# Altium schematic symbol library Inductor.SchLib: 22 symbols
Pins are listed as number, name and electrical type; pins without a type are passive.

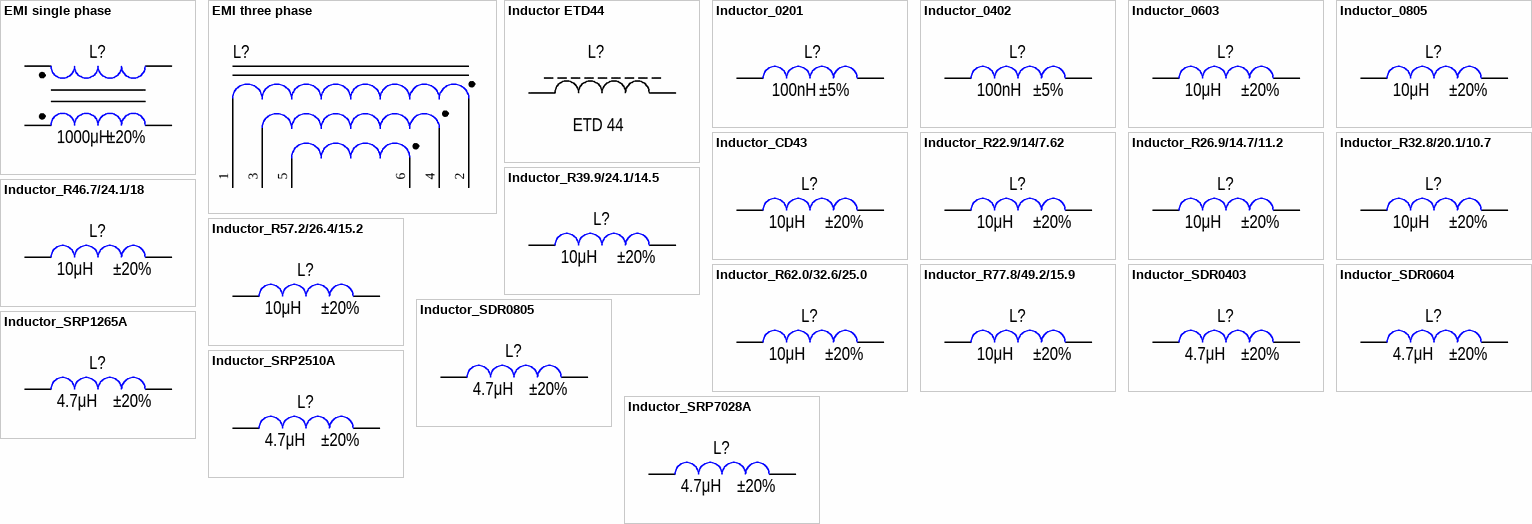
[diagram p0: symbols EMI single phase to Inductor_SRP7028A]

## EMI single phase
designator L?  value 1000μH  Tolerance: ±20%
Manufacturer: Epcos; PartNumber: B64290L0022X037; ValueManufacturerPartNumber: Fixed inductor, 1000μH, ±20%, R41.8/26.2/12.5, T37, 700 нГн/витков2; TypeInductor: Fixed inductor; TypeMatiriel: T37; AL: 700 нГн/витков2; Package: R41.8/26.2/12.5; HelpURL: http://ferrite.ru/warehouse/r-41.8-x-26.2-x-12.5-serdechnik-b64290l0022x037.html
footprint IND: R41.8/26.2/12.5 (EMI-H)
footprint IND: R41.8/26.2/12.5 (EMI-L)
pins: 1, 2, 3, 4

## EMI three phase
designator L?
Manufacturer: Epcos; PartNumber: B64290L0022X037; ValueManufacturerPartNumber: Fixed inductor, 1000μH, ±20%, R41.8/26.2/12.5, T37, 700 нГн/витков2; TypeInductor: Fixed inductor; TypeMatiriel: T37; AL: 700 нГн/витков2; Tolerance: ±20%; Value: 1000μH; Package: R41.8/26.2/12.5; HelpURL: http://ferrite.ru/warehouse/r-41.8-x-26.2-x-12.5-serdechnik-b64290l0022x037.html
footprint IND: RT8532-8-4M8 (3PH)
footprint IND: RT8532-20-2M5
pins: 1, 2, 3, 4, 5, 6

## Inductor ETD44
designator L?  Package: ETD 44  (hidden comment: *)
HelpURL: *; PartNumber: *
footprint IND ETD44 (9x9 pins)
pins: 1, 2

## Inductor_0201
designator L?  value 100nH  Tolerance: ±5%
Manufacturer: Murata Electronics; PartNumber: LQP03TNR10J02D; ValueManufacturerPartNumber: Fixed inductor, 100nH, ±5%, 0201, 80mA, -55...+125°C; TypeInductor: Fixed inductor; MaxCurrent: 80mA; Package: 0201; HelpURL: https://www.digikey.com/product-detail/en/murata-electronics-north-america/LQP03TNR10J02D/490-6742-1-ND/3845939; Temperature: -55...+125°C
footprint IND: 0201
pins: 1, 2

## Inductor_0402
designator L?  value 100nH  Tolerance: ±5%
Manufacturer: Murata Electronics; PartNumber: LQG15HSR10J02D; ValueManufacturerPartNumber: Fixed inductor, 100nH, ±5%, 0402, 200mA, -55...+125°C; TypeInductor: Fixed inductor; MaxCurrent: 200mA; Package: 0402; HelpURL: https://www.digikey.com/product-detail/en/murata-electronics-north-america/LQG15HSR10J02D/490-2635-1-ND/662915; Temperature: -55...+125°C
footprint IND: 0402
pins: 1, 2

## Inductor_0603
designator L?  value 10μH  Tolerance: ±20%
Manufacturer: Murata Electronics; PartNumber: LQM18FN100M00D; ValueManufacturerPartNumber: Fixed inductor, 10μH, ±20%, 0603, 50mA, -55...+125°C; TypeInductor: Fixed inductor; MaxCurrent: 50mA; Package: 0603; HelpURL: https://www.digikey.com/product-detail/en/murata-electronics-north-america/LQM18FN100M00D/490-4025-1-ND/1016285; Temperature: -55...+125°C
footprint IND: 0603
pins: 1, 2

## Inductor_0805
designator L?  value 10μH  Tolerance: ±20%
Manufacturer: Murata Electronics; PartNumber: LQM21FN100M70L; ValueManufacturerPartNumber: Fixed inductor, 10μH, ±20%, 0805, 100mA, -55...+125°C; TypeInductor: Fixed inductor; MaxCurrent: 100mA; Package: 0805; HelpURL: https://www.digikey.com/product-detail/en/murata-electronics-north-america/LQM21FN100M70L/490-4029-1-ND/1016289; Temperature: -55...+125°C
footprint IND: 0805
pins: 1, 2

## Inductor_CD43
designator L?  value 10μH  Tolerance: ±20%
Manufacturer: Sumida; PartNumber: CD43NP-100MC; ValueManufacturerPartNumber: Fixed inductor, 10μH, ±20%, CD43, 1.04A, -40...+100°C; TypeInductor: Fixed inductor; MaxCurrent: 1.04A; Package: CD43; HelpURL: https://www.digikey.com/product-detail/en/sumida-america-components-inc/CD43NP-100MC/308-1855-1-ND/3925624; Temperature: -40...+100°C
footprint IND: CD43
pins: 1, 2

## Inductor_R22.9/14/7.62
designator L?  value 10μH  Tolerance: ±20%
Manufacturer: Magnetics; PartNumber: 0077310A7; ValueManufacturerPartNumber: Fixed inductor, 10μH, ±20%, R22.9/14/7.62, Kool Mu, µ=125, 90 нГн/витков2; TypeInductor: Fixed inductor; TypeMatiriel: Kool Mu; AL: 90 нГн/витков2; MaterialPermeability: µ=125; Package: R22.9/14/7.62; HelpURL: http://ferrite.ru/warehouse/r-22-9147-62-77310-a7.html
footprint IND: R22.9/14/7.62 (H)
footprint IND: R22.9/14/7.62 (L)
pins: 1, 2

## Inductor_R26.9/14.7/11.2
designator L?  value 10μH  Tolerance: ±20%
Manufacturer: Magnetics; PartNumber: 0077930A7; ValueManufacturerPartNumber: Fixed inductor, 10μH, ±20%, R26.9/14.7/11.2, Kool Mu, µ=125, 157 нГн/витков2; TypeInductor: Fixed inductor; TypeMatiriel: Kool Mu; AL: 157 нГн/витков2; MaterialPermeability: µ=125; Package: R26.9/14.7/11.2; HelpURL: http://ferrite.ru/warehouse/r-26-914-711-2-77930-a7.html
footprint IND: R26.9/14.7/11.2 (H)
footprint IND: R26.9/14.7/11.2 (L)
pins: 1, 2

## Inductor_R32.8/20.1/10.7
designator L?  value 10μH  Tolerance: ±20%
Manufacturer: Magnetics; PartNumber: 0077548A7; ValueManufacturerPartNumber: Fixed inductor, 10μH, ±20%, R32.8/20.1/10.7, Kool Mu, µ=125, 127 нГн/витков2; TypeInductor: Fixed inductor; TypeMatiriel: Kool Mu; AL: 127 нГн/витков2; MaterialPermeability: µ=125; Package: R32.8/20.1/10.7; HelpURL: http://ferrite.ru/warehouse/r-32-820-110-7-77548-a7.html
footprint IND: R32.8/20.1/10.7 (H)
footprint IND: R32.8/20.1/10.7 (L)
pins: 1, 2

## Inductor_R39.9/24.1/14.5
designator L?  value 10μH  Tolerance: ±20%
Manufacturer: Magnetics; PartNumber: 0077258A7; ValueManufacturerPartNumber: Fixed inductor, 10μH, ±20%, R39.9/24.1/14.5, Kool Mu, µ=90, 121 нГн/витков2; TypeInductor: Fixed inductor; TypeMatiriel: Kool Mu; AL: 121 нГн/витков2; MaterialPermeability: µ=90; Package: R39.9/24.1/14.5; HelpURL: http://ferrite.ru/warehouse/r-39-9-x-24-1-x-14-5-serdechnik-0077258a7.html
footprint IND: R39.9/24.1/14.5 (H)
footprint IND: R39.9/24.1/14.5 (L)
pins: 1, 2

## Inductor_R46.7/24.1/18
designator L?  value 10μH  Tolerance: ±20%
Manufacturer: Magnetics; PartNumber: 0077438A7; ValueManufacturerPartNumber: Fixed inductor, 10μH, ±20%, R46.7/24.1/18, Kool Mu, µ=125, 281 нГн/витков2; TypeInductor: Fixed inductor; TypeMatiriel: Kool Mu; AL: 281 нГн/витков2; MaterialPermeability: µ=125; Package: R46.7/24.1/18; HelpURL: http://ferrite.ru/warehouse/r-46-7-24-1-18-77438-a7.html
footprint IND: R46.7/24.1/18 (H)
footprint IND: R46.7/24.1/18 (L)
pins: 1, 2

## Inductor_R57.2/26.4/15.2
designator L?  value 10μH  Tolerance: ±20%
Manufacturer: Magnetics; PartNumber: 0077195A7; ValueManufacturerPartNumber: Fixed inductor, 10μH, ±20%, R57.2/26.4/15.2, Kool Mu, µ=125, 287 нГн/витков2; TypeInductor: Fixed inductor; TypeMatiriel: Kool Mu; AL: 287 нГн/витков2; MaterialPermeability: µ=125; Package: R57.2/26.4/15.2; HelpURL: http://ferrite.ru/warehouse/r-57.2-x-26.4-x-15.2-serdechnik-77195-a7.html
footprint IND: R57.2/26.4/15.2 (H)
footprint IND: R57.2/26.4/15.2 (L)
footprint IND: R57.2/26.4/15.2 (H2)
footprint IND: R57.2/26.4/15.2 (L2)
pins: 1, 2

## Inductor_R62.0/32.6/25.0
designator L?  value 10μH  Tolerance: ±20%
Manufacturer: Magnetics; PartNumber: 0077617A7; ValueManufacturerPartNumber: Fixed inductor, 10μH, ±20%, R62.0/32.6/25.0, Kool Mu, µ=60, 189 нГн/витков2; TypeInductor: Fixed inductor; TypeMatiriel: Kool Mu; AL: 189 нГн/витков2; MaterialPermeability: µ=60; Package: R62.0/32.6/25.0; HelpURL: http://ferrite.ru/warehouse/r-62-x-32-6-x-25-serdechnik-0077617a7.html
footprint IND: R62.0/32.6/25.0 (H)
footprint IND: R62.0/32.6/25.0 (L)
pins: 1, 2

## Inductor_R77.8/49.2/15.9
designator L?  value 10μH  Tolerance: ±20%
Manufacturer: Magnetics; PartNumber: 0077617A7; ValueManufacturerPartNumber: Fixed inductor, 10μH, ±20%, R77.8/49.2/15.9, Kool Mu, µ=60, 189 нГн/витков2; TypeInductor: Fixed inductor; TypeMatiriel: Kool Mu; AL: 189 нГн/витков2; MaterialPermeability: µ=60; Package: R77.8/49.2/15.9; HelpURL: http://ferrite.ru/warehouse/r-62-x-32-6-x-25-serdechnik-0077617a7.html
footprint IND: R77.8/49.2/15.9 (H)
footprint IND: R77.8/49.2/15.9 (L)
pins: 1, 2

## Inductor_SDR0403
designator L?  value 4.7μH  Tolerance: ±20%
Manufacturer: Bourns; PartNumber: SDR0403-4R7ML; ValueManufacturerPartNumber: Fixed inductor, 4.7μH, ±20%, SDR0403, 1.7A, -40...+125°C; TypeInductor: Fixed inductor; MaxCurrent: 1.7A; Package: SDR0403; HelpURL: https://www.digikey.com/product-detail/en/bourns-inc/SDR0403-4R7ML/SDR0403-4R7MLCT-ND/2127096; Temperature: -40...+125°C
footprint IND: SDR0403
pins: 1, 2

## Inductor_SDR0604
designator L?  value 4.7μH  Tolerance: ±20%
Manufacturer: Bourns; PartNumber: SDR0604-4R7ML; ValueManufacturerPartNumber: Fixed inductor, 4.7μH, ±20%, SDR0604, 1.8A, -40...+125°C; TypeInductor: Fixed inductor; MaxCurrent: 1.8A; Package: SDR0604; HelpURL: https://www.digikey.com/product-detail/en/bourns-inc/SDR0604-4R7ML/SDR0604-4R7MLCT-ND/2352942; Temperature: -40...+125°C
footprint IND: SDR0604
pins: 1, 2

## Inductor_SDR0805
designator L?  value 4.7μH  Tolerance: ±20%
Manufacturer: Bourns; PartNumber: SDR0805-4R7ML; ValueManufacturerPartNumber: Fixed inductor, 4.7μH, ±20%, SDR0805, 3.7A, -40...+125°C; TypeInductor: Fixed inductor; MaxCurrent: 3.7A; Package: SDR0805; HelpURL: https://www.digikey.com/product-detail/en/bourns-inc/SDR0805-4R7ML/SDR0805-4R7MLCT-ND/2352947; Temperature: -40...+125°C
footprint IND: SDR0805
pins: 1, 2

## Inductor_SRP1265A
designator L?  value 4.7μH  Tolerance: ±20%
Manufacturer: Bourns; PartNumber: SRP1265A-4R7M; ValueManufacturerPartNumber: Fixed inductor, 4.7μH, ±20%, SRP1265A, 13.5A, -40...+150°C; TypeInductor: Fixed inductor; MaxCurrent: 13.5A; Package: SRP1265A; HelpURL: https://www.digikey.com/product-detail/en/bourns-inc/SRP1265A-4R7M/SRP1265A-4R7MCT-ND/4876721; Temperature: -40...+150°C
footprint IND: SRP1265A
pins: 1, 2

## Inductor_SRP2510A
designator L?  value 4.7μH  Tolerance: ±20%
Manufacturer: Bourns; PartNumber: SRP2510A-4R7M; ValueManufacturerPartNumber: Fixed inductor, 4.7μH, ±20%, SRP2510A, 1.36A, -40...+125°C; TypeInductor: Fixed inductor; MaxCurrent: 1.36A; Package: SRP2510A; HelpURL: https://www.digikey.com/product-detail/en/bourns-inc/SRP2510A-4R7M/SRP2510A-4R7MCT-ND/7354840; Temperature: -40...+125°C
footprint IND: SRP2510A
pins: 1, 2

## Inductor_SRP7028A
designator L?  value 4.7μH  Tolerance: ±20%
Manufacturer: Bourns; PartNumber: SRP7028A-4R7M; ValueManufacturerPartNumber: Fixed inductor, 4.7μH, ±20%, SRP7028A, 5.5A, -40...+150°C; TypeInductor: Fixed inductor; MaxCurrent: 5.5A; Package: SRP7028A; HelpURL: https://www.digikey.com/product-detail/en/bourns-inc/SRP7028A-4R7M/SRP7028A-4R7MCT-ND/4876740; Temperature: -40...+150°C
footprint IND: SRP7028A
pins: 1, 2